# Altium schematic symbol library SI2323DS-T1-E3.SchLib: 1 symbol
Pins are listed as number, name and electrical type; pins without a type are passive.

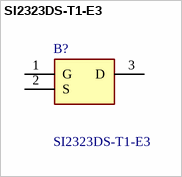
[diagram p0: symbol SI2323DS-T1-E3]

## SI2323DS-T1-E3
designator B?
SI2323DS-T1-E3, P-channel MOSFET Transistor 3.7 A 20 V, 3-Pin SOT-23, TO-236; Manufacturer_Name: Vishay; Geometry.Height: 1.12mm; Manufacturer_Part_Number: SI2323DS-T1-E3; Mouser Part Number: 781-SI2323DS-T1-E3; Mouser Price/Stock: https://www.mouser.co.uk/ProductDetail/Vishay-Semiconductors/SI2323DS-T1-E3?qs=jcx%252B0HVgj2Z84VwYjVEhjA%3D%3D; Arrow Part Number: SI2323DS-T1-E3; Arrow Price/Stock: https://www.arrow.com/en/products/si2323ds-t1-e3/vishay?region=europe; Datasheet Link: https://datasheet.datasheetarchive.com/originals/distributors/Datasheets-DGA23/1580060.pdf
footprint SOT95P237X112-3N
pins: 1 G, 2 S, 3 D